# Altium footprint library SL_Switches.PcbLib: 4 footprints
Each footprint in its own frame and in the unit in brackets; x right, y up, seen from the top. Pads: shape width x height; smd on the part's side, far side on the other; paste and mask are expansions set on the pad; w line width, h text height; cw(c..) or ccw(c..) is an arc to the next point about the centre after c.
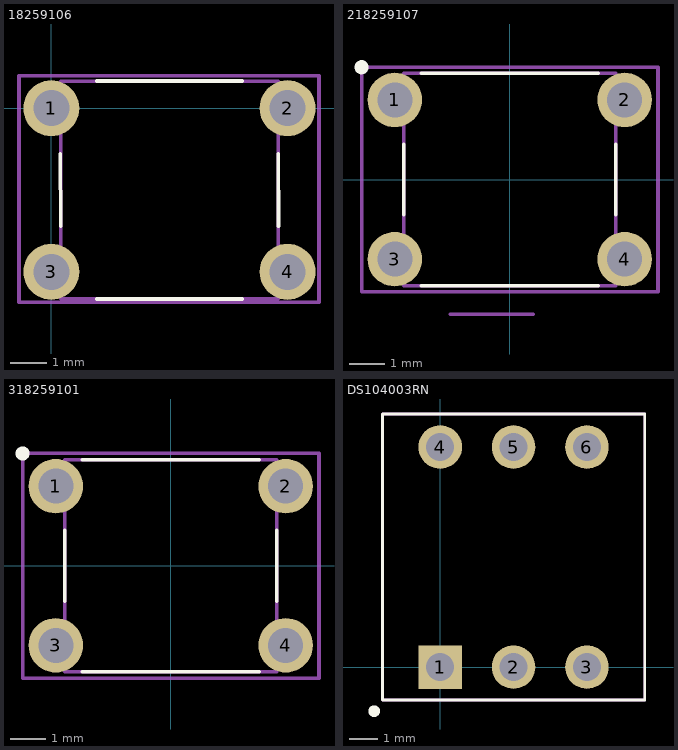
[diagram p0: the footprints below, top view; thin cyan lines are the x and y axes]

## 18259106 [mm]
pads (4):
  round 1.54 hole 0.99: 1(0,0) 2(6.5,0) 3(0,-4.5) 4(6.5,-4.5)
Top Overlay:
  lines w0.1: 0.25,-1.25 0.255,-3.25 ; 1.25,-5.25 5.25,-5.25 ; 1.25,0.75 5.25,0.75 ; 6.245,-1.25 6.25,-3.25
Mechanical 13:
  lines w0.1: 0.255,-5.245 6.245,-5.245 6.245,0.745 0.255,0.745 0.255,-5.245
Mechanical 15:
  lines w0.1: -0.889,-5.334 7.366,-5.334 7.366,0.889 -0.889,0.889 -0.889,-5.334
3D body "1825910-6.stp": height 5, standoff -3.51, extent -0.65,-5.245 7.15,0.745

## 218259107 [mm]
pads (4):
  round 1.54 hole 0.99: 1(-3.25,2.25) 2(3.25,2.25) 3(-3.25,-2.25) 4(3.25,-2.25)
Top Overlay:
  circle w0.2: c-4.191,3.175 r0.1
  lines w0.1: -3,-1 -3,1 ; -2.5,-3 2.5,-3 ; -2.5,3 2.5,3 ; 3,-1 3,1
Mechanical 13:
  lines w0.1: -3,-3 -3,3 3,3 3,-3 -3,-3
Mechanical 15:
  lines w0.1: -1.675,-3.81 0.66,-3.81 ; -4.191,-3.175 -4.191,3.175 4.191,3.175 4.191,-3.175 -4.191,-3.175
3D body "2-1825910-7.stp": height 12.84, standoff -3.67, extent -3.9,-2.995 3.9,2.995

## 318259101 [mm]
pads (4):
  round 1.54 hole 0.99: 1(-3.25,2.25) 2(3.25,2.25) 3(-3.25,-2.25) 4(3.25,-2.25)
Top Overlay:
  circle w0.2: c-4.191,3.175 r0.1
  lines w0.1: -3,-1 -3,1 ; -2.5,-3 2.5,-3 ; -2.5,3 2.5,3 ; 3,-1 3,1
Mechanical 13:
  lines w0.1: -3,-3 3,-3 3,3 -3,3 -3,-3
Mechanical 15:
  lines w0.1: -4.191,-3.175 4.191,-3.175 4.191,3.175 -4.191,3.175 -4.191,-3.175
3D body "3-1825910-1.stp": height 17, standoff -3.51, extent -3.9,-2.995 3.9,2.995

## DS104003RN [mm]
pads (6):
  rect 1.509x1.509 hole 0.97: 1(0,0)
  round 1.509 hole 0.97: 2(2.54,0) 3(5.08,0) 4(0,7.62) 5(2.54,7.62) 6(5.08,7.62)
Top Overlay:
  circle w0.2: c-2.286,-1.524 r0.1
  lines w0.1: -2,-1.14 7.08,-1.14 7.08,8.76 -2,8.76 -2,-1.14
Mechanical 13:
  lines w0.1: -2,-1.14 7.08,-1.14 7.08,8.76 -2,8.76 -2,-1.14
Mechanical 15:
  lines w0.1: -2,-1.14 7.08,-1.14 7.08,8.763 -2,8.763 -2,-1.14
3D body "User Library-DS1040-03 (DIP_switch).STEP": height 6.8, standoff -3.85, extent -2,-1.14 7.08,8.76